# Altium schematic symbol library 10174819-00011LF.SchLib: 1 symbol
Pins are listed as number, name and electrical type; pins without a type are passive.

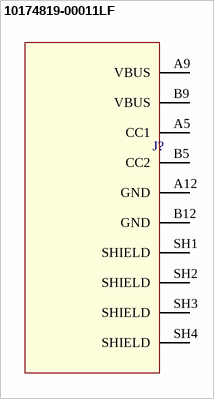
[diagram p0: symbol 10174819-00011LF]

## 10174819-00011LF
designator J?, comment USB_Type_C  (value not drawn)
USB-C (USB TYPE-C) Receptacle Connector 24 (6+18 Dummy) Position Surface Mount, Right Angle; MF: Amphenol Communications Solutions-FCI; MP: 10174819-00011LF; SnapEDA_Link: https://www.snapeda.com/parts/10174819-00011LF/Amphenol/view-part/?ref=snap; Package: None; Value: *; Check_prices: https://www.snapeda.com/parts/10174819-00011LF/Amphenol/view-part/?ref=eda; Supplier 1: Digikey; Supplier Part Number 1: 609-10174819-00011LFCT-ND
footprint AMPHENOL_10174819-00011LF
pins: A5 CC1, A9 VBUS (power), A12 GND (power), B5 CC2, B9 VBUS (power), B12 GND (power), SH1 SHIELD (power), SH2 SHIELD (power), SH3 SHIELD (power), SH4 SHIELD (power)